# Altium footprint library Mainboard_LoRa  PCB.PcbLib: 19 footprints (part 1 of 2)
Each footprint in its own frame and in the unit in brackets; x right, y up, seen from the top. Pads: shape width x height; smd on the part's side, far side on the other; paste and mask are expansions set on the pad; w line width, h text height; cw(c..) or ccw(c..) is an arc to the next point about the centre after c.
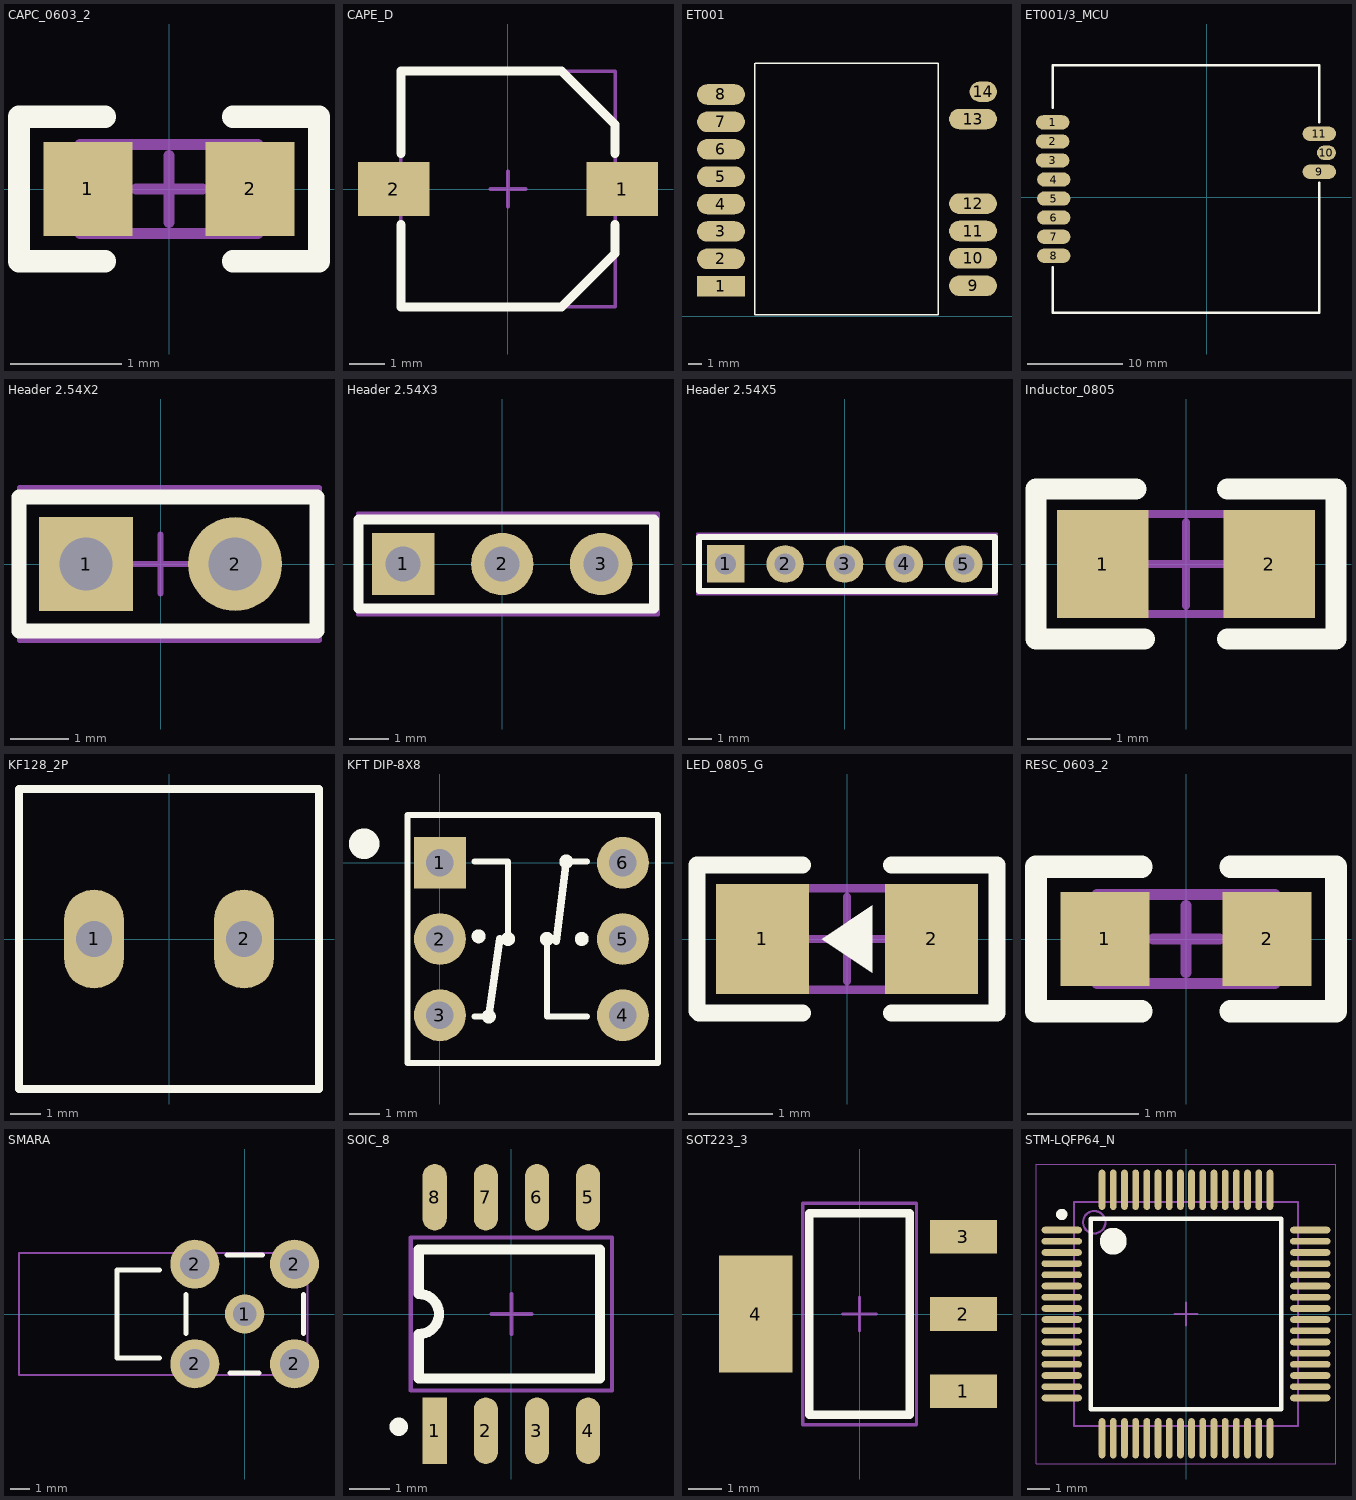
[diagram p0: the footprints below, top view; thin cyan lines are the x and y axes]

## CAPC_0603_2 [mm]
height 15.42
pads (2):
  rect 0.8x0.85 smd: 1(-0.73,0) 2(0.73,0)
Top Overlay:
  lines w0.2: -0.575,-0.65 -1.35,-0.65 -1.35,0.65 -0.575,0.65 ; 0.575,-0.65 1.35,-0.65 1.35,0.65 0.575,0.65
Mechanical 15:
  lines w0.1: -0.297,0 0.303,0 ; 0,-0.3 0,0.3 ; -0.8,-0.4 0.8,-0.4 0.8,0.4 -0.8,0.4 -0.8,-0.4
3D body "CAPC1608(0603).STEP": height 0.6, standoff 0, extent -0.8,-0.4 0.8,0.4

## CAPE_D [mm] "6.3X6.6X5.4"
pads (2):
  rect 2x1.5 smd: 1(3.2,0) 2(-3.2,0)
Top Overlay:
  lines w0.254: -3,-1 -3,-3.3 1.5,-3.3 3,-1.8 3,-1 ; -3,1 -3,3.3 1.5,3.3 3,1.8 3,1
Mechanical 15:
  lines w0.1: -0.5,0 0.5,0 ; 0,-0.5 0,0.5 ; -3,-3.3 3,-3.3 3,3.3 -3,3.3 -3,-3.3
3D body "CAPE-D.STEP": height 5.4, standoff 0, extent -3.5,-3.3 3.5,3.3

## ET001 [mm]
height 15.42
pads (14):
  rect 3.5x1.5 smd: 1(-26.782,2.205)
  oval 3.5x1.5 smd: 2(-26.782,4.205) 3(-26.782,6.205) 4(-26.782,8.205) 5(-26.782,10.205) 6(-26.782,12.205) 7(-26.782,14.205) 8(-26.782,16.205) 9(-8.382,2.237) 10(-8.382,4.237) 11(-8.382,6.237) 12(-8.382,8.237) 13(-8.382,14.411)
  oval 2x1.5 smd: 14(-7.63,16.408)
Top Overlay:
  lines w0.1: -24.318,0.118 -10.928,0.118 ; -24.318,0.122 -24.318,18.487 ; -24.297,18.491 -10.907,18.491 -10.907,0.122

## ET001/3_MCU [mm]
pads (11):
  oval 3.5x1.5 smd: 1(-16.18,7.849) 2(-16.18,5.849) 3(-16.18,3.849) 4(-16.063,1.849) 5(-16.063,-0.149) 6(-16.063,-2.149) 7(-16.063,-4.151) 8(-16.063,-6.151) 9(11.811,2.659) 11(11.811,6.659)
  oval 2x1.5 smd: 10(12.558,4.661)
Top Overlay:
  lines w0.254: -16.18,-7.366 -16.18,-12.148 11.82,-12.148 ; -16.18,9.398 -16.18,13.852 11.811,13.852 11.811,7.874 ; 11.811,-12.148 11.811,1.524

## Header 2.54X2 [mm]
height 15.42
pads (2):
  rect 1.6x1.6 hole 0.9: 1(-1.27,0)
  round 1.6 hole 0.9: 2(1.27,0)
Top Overlay:
  lines w0.254: -2.413,-1.143 -2.413,1.143 2.667,1.143 2.667,-1.143 -2.413,-1.143
Mechanical 15:
  lines w0.1: -0.5,0 0.5,0 ; 0,-0.5 0,0.5 ; -2.4,-1.3 -2.4,1.3 2.7,1.3 2.7,-1.3 -2.4,-1.3
3D body "HEADER 2.54X2.stp": height 8.3, standoff -2.9, extent -2.413,-1.228 2.667,1.27

## Header 2.54X3 [mm]
height 15.42
pads (3):
  rect 1.6x1.6 hole 0.9: 1(-2.54,0)
  round 1.6 hole 0.9: 2(0,0) 3(2.54,0)
Top Overlay:
  lines w0.254: -3.683,-1.143 3.9,-1.143 3.9,1.143 -3.683,1.143 -3.683,-1.143
Mechanical 15:
  lines w0.1: -3.7,-1.3 4,-1.3 4,1.3 -3.7,1.3 -3.7,-1.3

## Header 2.54X5 [mm]
height 15.42
pads (5):
  rect 1.6x1.6 hole 0.9: 1(-5.08,0)
  round 1.6 hole 0.9: 2(-2.54,0) 3(0,0) 4(2.54,0) 5(5.08,0)
Top Overlay:
  lines w0.254: -6.223,-1.143 -6.223,1.143 6.42,1.143 6.42,-1.143 -6.223,-1.143
Mechanical 15:
  lines w0.1: -6.3,-1.3 -6.3,1.3 6.5,1.3 6.5,-1.3 -6.3,-1.3
3D body "HEADER 2.54X5.stp": height 8.3, standoff -2.9, extent -6.223,-1.228 6.477,1.27

## Inductor_0805 [mm]
height 15.42
pads (2):
  rect 1.1x1.3 smd: 1(-1,0) 2(1,0)
Top Overlay:
  lines w0.254: -0.6,0.9 -1.8,0.9 -1.8,-0.9 -0.5,-0.9 ; 0.5,-0.9 1.8,-0.9 1.8,0.9 0.5,0.9
Mechanical 15:
  lines w0.1: -0.5,0 0.5,0 ; 0,-0.5 0,0.5 ; -1,-0.6 1,-0.6 1,0.6 -1,0.6 -1,-0.6
3D body "INDC2012(0805).STEP": height 0.95, standoff 0, extent -1,-0.6 1,0.6

## KF128_2P [mm]
height 15.42
pads (2):
  oval 2x3.3 hole 1.2: 1(-2.5,0) 2(2.5,0)
Top Overlay:
  lines w0.254: -5,-5 5,-5 5,5 -5,5 -5,-5
Mechanical 15:
  lines w0.1: -5,-5 5,-5 5,5 -5,5 -5,-5
3D body "DG128-5.08-2P.STEP": height 14.1, standoff -4.18, extent -5.5,-5.1 5.16,4.9

## KFT DIP-8X8 [mm]
height 15.42
pads (6):
  rect 1.7x1.7 hole 0.9: 1(0,0)
  round 1.7 hole 0.9: 2(0,-2.5) 3(0,-5) 4(6,-5) 5(6,-2.5) 6(6,0)
Top Overlay:
  circle w0.254: c4.143,0.04 r0.102
  circle w0.254: c4.651,-2.5 r0.102
  circle w0.254: c1.27,-2.413 r0.102
  circle w0.254: c1.603,-5.04 r0.102
  circle w0.254: c3.508,-2.5 r0.102
  circle w0.254: c2.238,-2.5 r0.102
  circle w0.6: c-2.486,0.624 r0.2
  lines w0.2: -1.064,-6.564 -1.064,1.564 7.153,1.564 7.153,-6.564 -1.064,-6.564
  lines w0.203: 1.143,-5.04 1.603,-5.04 ; 1.143,0.04 2.238,0.04 2.238,-2.5 ; 3.508,-2.5 3.508,-5.04 4.826,-5.04 ; 4.143,0.04 4.826,0.04
  lines w0.254: 1.603,-5.04 1.959,-2.5 ; 3.813,-2.576 4.143,0.04
3D body "KFT DIP-8X8.STEP": height 13.1, standoff -3.2, extent -1.079,-6.476 6.921,1.524

## LED_0805_G [mm]
height 15.42
pads (2):
  rect 1.1x1.3 smd: 1(-1,0) 2(1,0)
Top Overlay:
  region: -0.3,0 0.3,-0.4 0.3,0.4
  lines w0.2: -1.775,-0.85 -1.775,0.875 -0.525,0.875 ; -1.75,-0.875 -0.525,-0.875 ; 0.525,-0.875 1.775,-0.875 1.775,0.875 0.525,0.875
Mechanical 15:
  lines w0.1: -0.5,0 0.5,0 ; 0,-0.5 0,0.5 ; -1,-0.6 -1,0.6 1,0.6 1,-0.6 -1,-0.6
3D body "LED0805(G).STEP": height 1.1, standoff 0, extent -1.01,-0.625 1.01,0.625

## RESC_0603_2 [mm]
height 15.42
pads (2):
  rect 0.8x0.85 smd: 1(-0.73,0) 2(0.73,0)
Top Overlay:
  lines w0.2: -0.4,-0.65 -1.35,-0.65 -1.35,0.65 -0.4,0.65 ; 0.4,-0.65 1.35,-0.65 1.35,0.65 0.4,0.65
Mechanical 15:
  lines w0.1: -0.297,0 0.303,0 ; 0,-0.3 0,0.3 ; -0.8,-0.4 0.8,-0.4 0.8,0.4 -0.8,0.4 -0.8,-0.4
3D body "RESC1608(0603).STEP": height 0.38, standoff 0, extent -0.8,-0.4 0.8,0.4

## SMARA [mm]
height 15.42
pads (5):
  round 2 hole 1.2: 1(0,0)
  round 2.5 hole 1.5: 2(-2.54,-2.54) 2(-2.54,2.54) 2(2.54,-2.54) 2(2.54,2.54)
Top Overlay:
  lines w0.254: -4.34,-2.25 -6.5,-2.25 -6.5,2.25 -4.34,2.25 ; -3,-1 -3,1 ; -0.9,3 0.9,3 ; -0.74,-3 0.74,-3 ; 3,-1 3,1
Mechanical 15:
  lines w0.1: -11.5,-3.1 -11.5,3.1 3.2,3.1 3.2,-3.1 -11.5,-3.1
3D body "SMARA.step": height 9.55, standoff -3.94, extent -11.608,-3.15 3.2,3.2

## SOIC_8 [mm]
height 15.42
pads (8):
  rect 0.6x1.65 smd: 1(-1.905,-2.9)
  oval 0.6x1.65 smd: 2(-0.635,-2.9) 3(0.635,-2.9) 4(1.905,-2.9) 5(1.905,2.9) 6(0.635,2.9) 7(-0.635,2.9) 8(-1.905,2.9)
Top Overlay:
  circle w0.254: c-2.8,-2.8 r0.1
  lines w0.254: -2.3,-1.6 2.2,-1.6 2.2,1.6 -2.3,1.6 -2.3,0.5 cw(c-2.3,0) -2.3,-0.5 -2.3,-1.6
Mechanical 15:
  lines w0.1: -0.5,0 0.5,0 ; 0,-0.5 0,0.5 ; -2.5,-1.9 2.5,-1.9 2.5,1.9 -2.5,1.9 -2.5,-1.9
3D body "SOIC8.STEP": height 1.75, standoff 0, extent -2.5,-3.006 2.5,3.006

## SOT223_3 [mm]
height 15.42
pads (4):
  rect 2x1 smd: 1(3.1,-2.3) 2(3.1,0) 3(3.1,2.3)
  rect 2.2x3.5 smd: 4(-3.1,0)
Top Overlay:
  lines w0.254: -1.5,-3 -1.5,3 1.5,3 1.5,-3 -1.5,-3
Mechanical 15:
  lines w0.1: -0.5,0 0.5,0 ; 0,-0.5 0,0.5 ; -1.7,-3.3 1.7,-3.3 1.7,3.3 -1.7,3.3 -1.7,-3.3
3D body "SOT223.STEP": height 1.64, standoff -0.01, extent -3.5,-3.25 3.5,3.25

## STM-LQFP64_N [mm] "Thin QFP, 64-Leads, Body 10x10mm, Pitch 0.5mm, IPC Medium Density"
height 1.6
pads (64):
  oval 1.8x0.3 smd: 1(-5.55,3.75) 2(-5.55,3.25) 3(-5.55,2.75) 4(-5.55,2.25) 5(-5.55,1.75) 6(-5.55,1.25) 7(-5.55,0.75) 8(-5.55,0.25) 9(-5.55,-0.25) 10(-5.55,-0.75) 11(-5.55,-1.25) 12(-5.55,-1.75) 13(-5.55,-2.25) 14(-5.55,-2.75) 15(-5.55,-3.25) 16(-5.55,-3.75) 33(5.55,-3.75) 34(5.55,-3.25) 35(5.55,-2.75) 36(5.55,-2.25) 37(5.55,-1.75) 38(5.55,-1.25) 39(5.55,-0.75) 40(5.55,-0.25) 41(5.55,0.25) 42(5.55,0.75) 43(5.55,1.25) 44(5.55,1.75) 45(5.55,2.25) 46(5.55,2.75) 47(5.55,3.25) 48(5.55,3.75)
  oval 0.3x1.8 smd: 17(-3.75,-5.55) 18(-3.25,-5.55) 19(-2.75,-5.55) 20(-2.25,-5.55) 21(-1.75,-5.55) 22(-1.25,-5.55) 23(-0.75,-5.55) 24(-0.25,-5.55) 25(0.25,-5.55) 26(0.75,-5.55) 27(1.25,-5.55) 28(1.75,-5.55) 29(2.25,-5.55) 30(2.75,-5.55) 31(3.25,-5.55) 32(3.75,-5.55) 49(3.75,5.55) 50(3.25,5.55) 51(2.75,5.55) 52(2.25,5.55) 53(1.75,5.55) 54(1.25,5.55) 55(0.75,5.55) 56(0.25,5.55) 57(-0.25,5.55) 58(-0.75,5.55) 59(-1.25,5.55) 60(-1.75,5.55) 61(-2.25,5.55) 62(-2.75,5.55) 63(-3.25,5.55) 64(-3.75,5.55)
Top Overlay:
  circle w0.6: c-3.25,3.25 r0.3
  circle w0.25: c-5.55,4.45 r0.125
  lines w0.2: -4.25,-4.25 4.25,-4.25 4.25,4.25 -4.25,4.25 -4.25,-4.25
Mechanical 13:
  circle w0.1: c-4.1,4.1 r0.5
  lines w0.1: -5,-5 5,-5 5,5 -5,5 -5,-5
Mechanical 15:
  lines w0.05: -6.7,-6.7 6.7,-6.7 6.7,6.7 -6.7,6.7 -6.7,-6.7
  lines w0.1: -0.5,0 0.5,0 ; 0,-0.5 0,0.5
3D body: height 1.6, standoff 0.05, extent -5,-5 5,5